# Altium schematic symbol library Timer_555.SchLib: 1 symbol
Pins are listed as number, name and electrical type; pins without a type are passive.

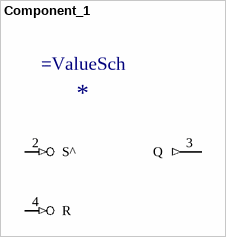
[diagram p0: symbol Component_1]

## Component_1
designator *
pins: 2 S^ (in) "Analog negativ set", 3 Q (out) "Out", 4 R (in) "Reset"